# Altium schematic symbol library capstone_v1.1.SchLib: 5 symbols
Pins are listed as number, name and electrical type; pins without a type are passive.

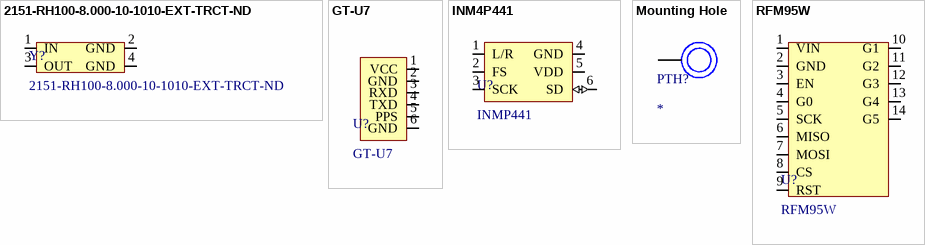
[diagram p0: symbols 2151-RH100-8.000-10-1010-EXT-TRCT-ND to RFM95W]

## 2151-RH100-8.000-10-1010-EXT-TRCT-ND
designator Y?
8 MHz Oscillator
footprint 2151-RH100-8.000-10-1010-EXT-TRCT-ND (8 MHz Oscillator)
pins: 1 IN, 2 GND (power), 3 OUT, 4 GND (power)

## GT-U7
designator U?
GPS Module
footprint GT U7 GPS (GT U7 GPS Footprint)
pins: 1 VCC (power), 2 GND (power), 3 RXD (in), 4 TXD (out), 5 PPS (out), 6 GND (power)

## INM4P441
designator U?, comment INMP441
Microphone Module
footprint INMP441 (Footprint for INMP441 Microphone)
pins: 1 L/R (in), 2 FS (in), 3 SCK (in), 4 GND (power), 5 VDD (power), 6 SD (io)

## Mounting Hole
designator PTH?
MB Standoffs
footprint MB Stand off
pins: 1 (power)

## RFM95W
designator U?
LoRa Module
footprint RFM95W (LoRa)
pins: 1 VIN (power), 2 GND (power), 3 EN (in), 4 G0, 5 SCK (in), 6 MISO (out), 7 MOSI (in), 8 CS (in), 9 RST (in), 10 G1, 11 G2, 12 G3, 13 G4, 14 G5